# Altium footprint library PowerInductors.PcbLib: 1 footprints
Each footprint in its own frame and in the unit in brackets; x right, y up, seen from the top. Pads: shape width x height; smd on the part's side, far side on the other; paste and mask are expansions set on the pad; w line width, h text height; cw(c..) or ccw(c..) is an arc to the next point about the centre after c.
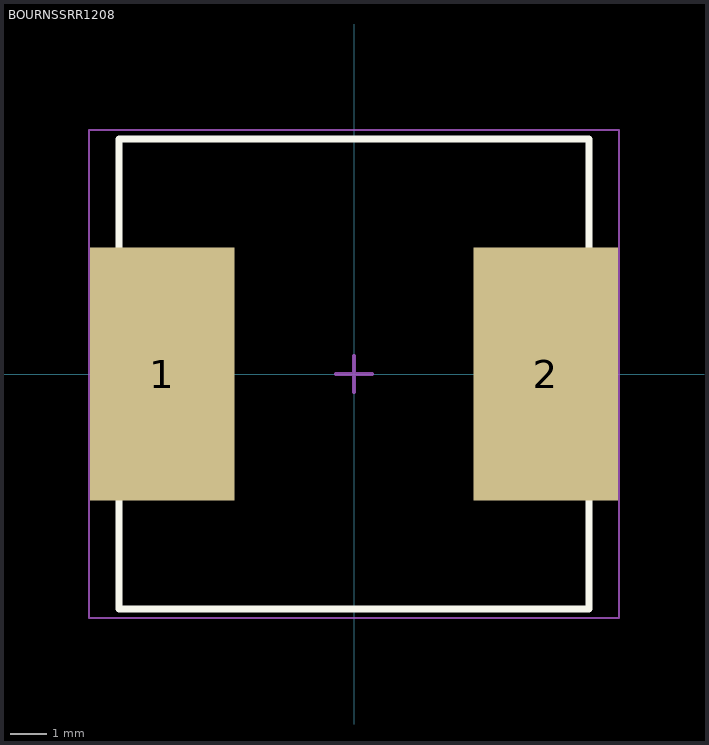
[diagram p0: the footprint, top view; thin cyan lines are the x and y axes]

## BOURNSSRR1208 [mm] "Precision Wire Wound Inductor, 2-Leads, Body 12,70x12,70mm, IPC Medium Density"
height 8.5
pads (2):
  rect 4x7 smd: 1(-5.3,0) 2(5.3,0)
Top Overlay:
  lines w0.2: -6.5,-2.95 -6.5,-6.5 6.5,-6.5 6.5,-2.95 ; -6.5,2.95 -6.5,6.5 6.5,6.5 6.5,2.95
Mechanical 13:
  lines w0.1: -6.5,-6.5 6.5,-6.5 6.5,6.5 -6.5,6.5 -6.5,-6.5
Mechanical 15:
  lines w0.05: -7.325,-6.75 7.325,-6.75 7.325,6.75 -7.325,6.75 -7.325,-6.75
  lines w0.1: -0.5,0 0.5,0 ; 0,-0.5 0,0.5
3D body: height 8.5, standoff 0, extent -6.5,-6.5 6.5,6.5